# Altium schematic symbol library NUP2201MR6-318G-02.SchLib: 1 symbol
Pins are listed as number, name and electrical type; pins without a type are passive.

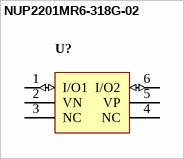
[diagram p0: symbol NUP2201MR6-318G-02]

## NUP2201MR6-318G-02
designator U?
pins: 1 I/O1 (io) "Input/Output 1", 2 VN (power), 3 NC, 4 NC, 5 VP (power), 6 I/O2 (io)